# Altium integrated library SubG.IntLib: 4 symbols
Pins are listed as number, name and electrical type; pins without a type are passive.

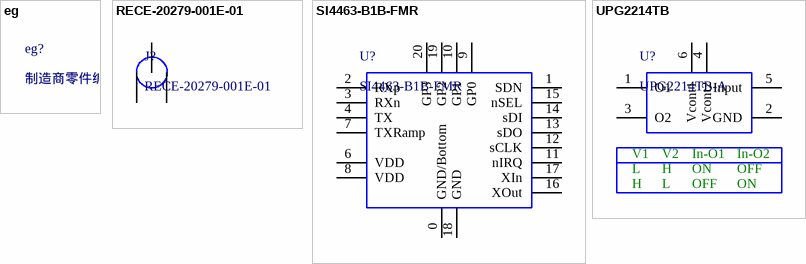
[diagram p0: symbols eg to UPG2214TB]

## eg
designator eg?, comment 制造商零件编号
新建元件示例; ComponentLink1Description: 供应商链接; Supplier: 供应商名称; SuppliersPartNumber: 销售商零件编号; Package: 封装

## RECE-20279-001E-01
designator J?
RF连接器/同轴连接器 ONBRD IPEX MHF RECEPTACLE; ComponentLink1Description: http://www.mouser.cn/ProductDetail/Taoglas/RECE-20279-001E-01/?qs=%2fha2pyFadujqhFX9QSGQ0Jq8TQbSmm0TSdw7FzJZzJAdZFUpRzf0EieCCALjSPrt; Supplier: Mouser; SuppliersPartNumber: 960-RECE20279001E01; Package: IPEX MHF
footprint I-PEX (RF连接器/同轴连接器)
pins: 1 G, 2 S, 3 G

## SI4463-B1B-FMR
designator U?
IC; ComponentLink1Description: 供应商链接; Supplier: 供应商名称; SuppliersPartNumber: 销售商零件编号; Package: 封装
footprint QFN-20 (SI4463)
pins: 0 GND/Bottom, 1 SDN, 2 RXp, 3 RXn, 4 TX, 5 NC hidden, 6 VDD, 7 TXRamp, 8 VDD, 9 GP0, 10 GP1, 11 nIRQ, 12 sCLK, 13 sDO, 14 sDI, 15 nSEL, 16 XOut, 17 XIn, 18 GND, 19 GP2, 20 GP3

## UPG2214TB
designator U?, comment UPG2214TB-A
pins: 1 O1, 2 GND, 3 O2, 4 Vcont2, 5 Input, 6 Vcont1
text: V1; V2; In-O1; In-O2; L; H; ON; OFF